# Altium footprint library PCB - LEADLESS - QFN - TI QFN-16 RGT.PcbLib: 1 footprints
Each footprint in its own frame and in the unit in brackets; x right, y up, seen from the top. Pads: shape width x height; smd on the part's side, far side on the other; paste and mask are expansions set on the pad; w line width, h text height; cw(c..) or ccw(c..) is an arc to the next point about the centre after c.
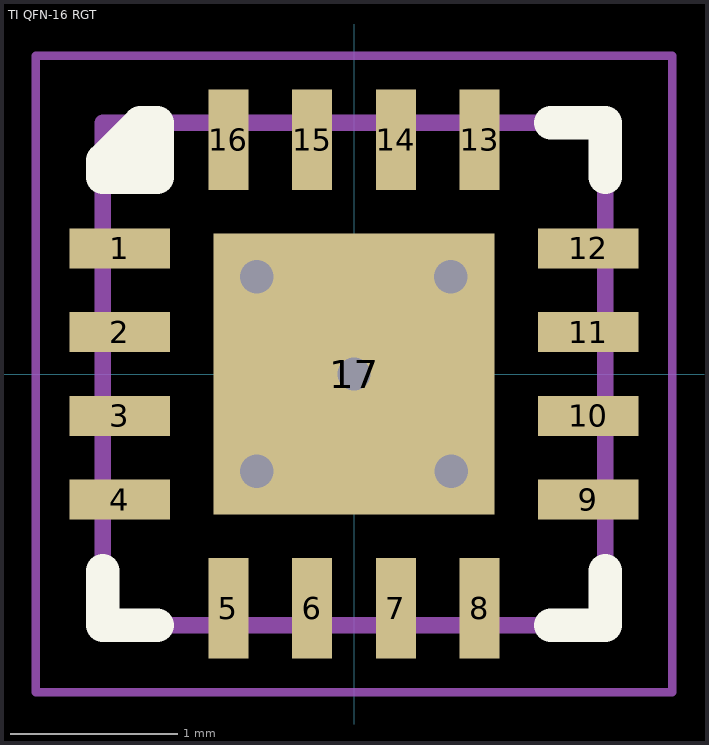
[diagram p0: the footprint, top view; thin cyan lines are the x and y axes]

## TI QFN-16 RGT [mm] "TI BQ24074RGTR"
height 1
pads (17):
  rect 0.6x0.24 smd: 1(-1.4,0.75) 2(-1.4,0.25) 3(-1.4,-0.25) 4(-1.4,-0.75) 9(1.4,-0.75) 10(1.4,-0.25) 11(1.4,0.25) 12(1.4,0.75)
  rect 0.24x0.6 smd: 5(-0.75,-1.4) 6(-0.25,-1.4) 7(0.25,-1.4) 8(0.75,-1.4) 13(0.75,1.4) 14(0.25,1.4) 15(-0.25,1.4) 16(-0.75,1.4)
  rect 1.68x1.68 smd mask+0.1: 17(0,0)
via 0,0 diameter 0.4 hole 0.2
via -0.58,0.58 diameter 0.4 hole 0.2
via 0.578,0.58 diameter 0.4 hole 0.2
via 0.58,-0.58 diameter 0.4 hole 0.2
via -0.58,-0.58 diameter 0.4 hole 0.2
Top Overlay:
  region: -1.5,1.175 -1.175,1.5 -1.175,1.175
  lines w0.2: -1.5,-1.175 -1.5,-1.5 -1.175,-1.5 ; 1.175,-1.5 1.5,-1.5 1.5,-1.175 ; 1.175,1.5 1.5,1.5 1.5,1.175 ; -1.5,1.175 -1.5,1.275 -1.275,1.5 -1.175,1.5 -1.175,1.175 -1.5,1.175
Mechanical 13:
  lines w0.1: -1.5,-1.5 1.5,-1.5 1.5,1.5 -1.5,1.5 -1.5,-1.5
Mechanical 15 (Mech15):
  lines w0.05: -1.9,-1.9 1.9,-1.9 1.9,1.9 -1.9,1.9 -1.9,-1.9
  lines w0.1: -0.3,0 0.3,0 ; 0,-0.3 0,0.3
3D body "TI - QFN-16 - RGT0016C.step": height 1, standoff 0, extent -1.5,-1.5 1.5,1.5